# Altium schematic symbol library MCP3301-BI_SN.Schlib: 1 symbol
Pins are listed as number, name and electrical type; pins without a type are passive.

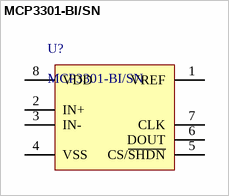
[diagram p0: symbol MCP3301-BI/SN]

## MCP3301-BI/SN
designator U?
13 Bit Analog to Digital Converter 1 Input 1 SAR 8-SOIC
pins: 1 VREF, 2 IN+, 3 IN-, 4 VSS, 5 CS/~{SHDN}, 6 DOUT, 7 CLK, 8 VDD